# Altium integrated library HX711.IntLib: 1 symbol
Pins are listed as number, name and electrical type; pins without a type are passive.

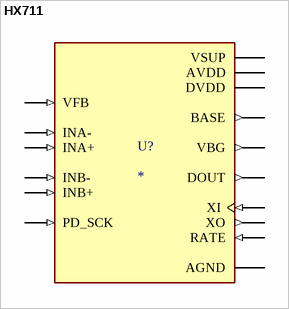
[diagram p0: symbol HX711]

## HX711
designator U?
MP: HX711; Value: *; Availability: Unavailable; Price: None; Package: None
footprint SOP127P600X180-16N
pins: 1 VSUP (power), 2 BASE (out), 3 AVDD (power), 4 VFB (in), 5 AGND (power), 6 VBG (out), 7 INA- (in), 8 INA+ (in), 9 INB- (in), 10 INB+ (in), 11 PD_SCK (in), 12 DOUT (out), 13 XO (out), 14 XI (in), 15 RATE (in), 16 DVDD (power)